# Altium footprint library Mod.PcbLib: 24 footprints (part 1 of 2)
Each footprint in its own frame and in the unit in brackets; x right, y up, seen from the top. Pads: shape width x height; smd on the part's side, far side on the other; paste and mask are expansions set on the pad; w line width, h text height; cw(c..) or ccw(c..) is an arc to the next point about the centre after c.
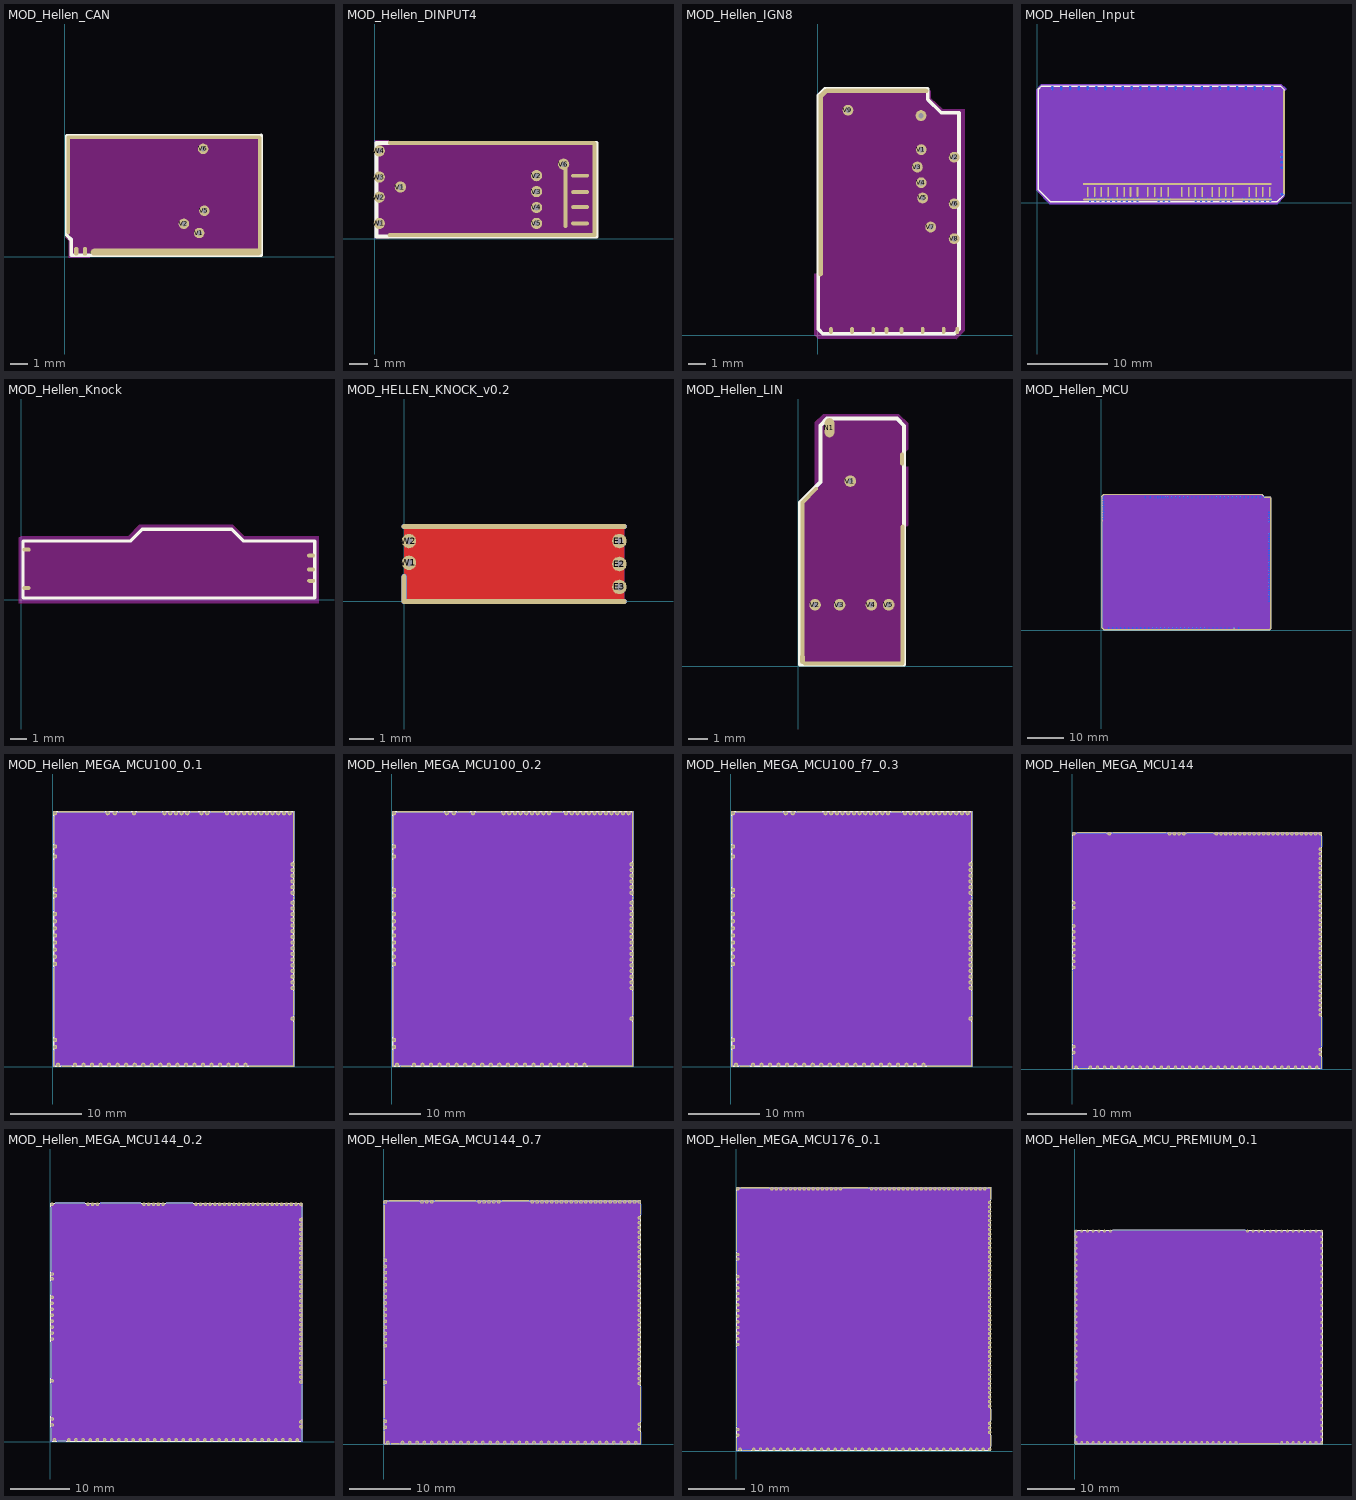
[diagram p0: the footprints below, top view; thin cyan lines are the x and y axes]

## MOD_Hellen_CAN [mm] "Hellen One : CAN module interface"
pads (11):
  oval 0.2x5.67 smd paste-50 mask+0.102: E1(0.2,4.137)
  oval 11.1x0.2 smd paste-50 mask+0.102: E1(5.675,6.875)
  oval 9.8x0.4 smd paste-50 mask+0.102: E1(6.375,0.275)
  oval 0.5x0.25 smd paste-50: E1(11,0.275)
  oval 0.2x6.8 smd paste-50 mask+0.102: E1(11.175,3.538)
  oval 0.25x0.5 smd paste-50: S1(0.65,0.325) S2(1.15,0.325)
  round 0.6 hole 0.3 paste-2539.97: V1(7.7,1.375) V2(6.825,1.9) V5(8,2.65) V6(7.925,6.2)
Top Layer keep-out:
  region: 0.227,-0.044 0.227,0.918 0.024,1.121 0.287,1.384 0.287,6.81 11.112,6.81 11.112,0.448 1.61,0.448 1.437,0.275 1.437,-0.044
Top Overlay:
  lines w0.2: 0.375,0.1 11.275,0.1 11.275,6.986 0.1,6.947 0.1,1.25 0.375,0.975 0.375,0.1 ; 0.375,0.1 0.375,0.1
Bottom Overlay:
  lines w0.2: 11.275,0.094 11.275,6.987 0.1,6.948 0.1,1.25 0.375,0.975 0.375,0.15 0.431,0.1 11.275,0.1

## MOD_Hellen_DINPUT4 [mm] "Hellen One : Digital Input 4-ch module interface"
pads (22):
  oval 11.1x0.2 smd paste-50 mask+0.102: G(6.25,0.2) G(6.26,5.125)
  oval 0.2x5.1 smd paste-50 mask+0.102: G(11.75,2.65)
  oval 0.95x0.2 smd paste-50 mask+0.102: J1(10.975,3.375) J2(10.975,2.5) J3(10.975,1.7) J4(10.975,0.825)
  round 0.6 hole 0.3 paste-2539.97: V1(1.375,2.768) V2(8.65,3.375) V3(8.65,2.525) V4(8.65,1.675) V5(8.65,0.825) V6(10.099,3.986) W1(0.25,0.825) W2(0.25,2.225) W3(0.25,3.3) W4(0.25,4.7)
  oval 0.2x3.5 smd paste-50 mask+0.102: V6(10.2,2.325)
  oval 0.5x0.25 smd paste-50 mask+0.102: W1(0.25,0.875) W2(0.25,2.175) W3(0.25,3.35) W4(0.25,4.65)
Top Layer keep-out:
  region: -0.001,0.025 -0.001,1.121 -0.001,5.255 0.75,5.255 0.75,5.125 11.75,5.125 11.75,0.175 0.75,0.175 0.75,0.025
Top Overlay:
  lines w0.2: 0.1,5.025 0.1,0.125 11.85,0.125 11.85,5.025 ; 0.1,5.125 11.85,5.125
Bottom Overlay:
  lines w0.2: 0.1,5.025 0.1,0.125 11.85,0.125 11.85,5.025 ; 0.1,5.125 11.85,5.125

## MOD_Hellen_IGN8 [mm] "Hellen One : 8-ch ignition module interface"
pads (21):
  oval 0.25x10.2 smd paste-50 mask+0.102: G(0.15,8.4)
  oval 0.65x0.25 smd rot 45 paste-50 mask+0.102: G(0.3,13.5)
  oval 5.8x0.25 smd paste-50 mask+0.102: G(3.263,13.65)
  oval 0.2x0.4 smd paste-50: S1(7.775,0.275) S2(7.015,0.275) S3(5.84,0.275) S4(4.665,0.275) S5(3.825,0.275) S6(3.075,0.275) S7(1.9,0.275) S8(0.725,0.275)
  round 0.6 hole 0.3 paste-2539.97: V1(5.765,10.375) V2(7.6,9.95) V3(5.55,9.4) V4(5.765,8.525) V5(5.84,7.675) V6(7.6,7.35) V7(6.29,6.05) V8(7.6,5.4) V9(1.675,12.575) V10(5.75,12.275)
Top Layer keep-out:
  region: -0.21,0.03 -0.21,3.437 0.171,3.437 0.171,13.345 0.476,13.65 6.3,13.65 6.3,13.248 6.961,12.627 8.19,12.615 8.19,0.265 7.725,-0.2 0.025,-0.2
Top Overlay:
  lines w0.2: 0.025,0.35 0.025,13.412 0.384,13.771 6.125,13.771 6.125,13.175 6.875,12.425 7.875,12.425 7.875,10.55 7.875,0.35 7.625,0.1 0.275,0.1 0.025,0.35
Bottom Overlay:
  lines w0.2: 0.025,0.35 0.025,13.412 0.387,13.774 6.125,13.774 6.125,13.175 6.875,12.425 7.875,12.425 7.875,0.35 7.625,0.1 0.275,0.1 0.025,0.35

## MOD_Hellen_Input [mm] "Hellen One : Analog/Digital inputs module interface"
pads (84):
  rrect100% 0.5x0.25 smd far side paste-50: E1(30.65,6.358) E2(30.65,5.698) E3(30.65,5.038) E4(30.65,4.378) E5(30.65,1.078)
  rrect100% 0.2x13 smd paste-50 mask+0.102: E1(30.85,7.545)
  rrect100% 23.6x0.25 smd paste-50 mask+0.102: J1(17.495,2.325) J2(17.52,0.4)
  rrect100% 0.2x1.25 smd paste-50 mask+0.102: J3(6.295,1.35) J4(7.17,1.35) J5(7.97,1.35) J6(8.845,1.35) J7(9.97,1.35) J8(10.845,1.35) J9(11.645,1.35) J10(12.52,1.35) J11(13.795,1.35) J12(14.67,1.35) J13(15.47,1.35) J14(16.345,1.35) J15(18.07,1.35) J16(18.945,1.35) J17(19.745,1.35) J18(20.62,1.35) J19(21.87,1.35) J20(22.745,1.35) J21(23.545,1.35) J22(24.42,1.35) J23(26.5,1.35) J24(27.375,1.35) J25(28.175,1.35) J26(29.05,1.35)
  rrect100% 0.25x0.5 smd far side: N1(1.88,14.327) N2(2.98,14.327) N3(4.08,14.327) N4(5.18,14.327) N5(6.28,14.327) N6(7.38,14.327) N7(8.48,14.327) N8(9.58,14.327) N9(10.68,14.327) N10(11.78,14.327) N11(12.88,14.327) N12(13.98,14.327) N13(15.08,14.327) N14(16.18,14.327) N15(17.28,14.327) N16(18.38,14.327) N17(19.48,14.327) N18(20.58,14.327) N19(21.68,14.327) N20(22.78,14.327) N21(23.88,14.327) N22(24.98,14.327) N23(26.08,14.327) N24(27.18,14.327) N25(28.28,14.327) N26(29.38,14.327)
  rrect100% 0.25x0.5 smd far side paste-50: S1(29.129,0.365) S2(28.469,0.365) S3(27.809,0.365) S4(27.149,0.365) S5(26.489,0.365) S6(25.829,0.365) S7(24.228,0.365) S8(23.568,0.365) S9(22.908,0.365) S10(21.787,0.365) S11(21.127,0.365) S12(20.467,0.365) S13(19.807,0.365) S14(16.481,0.365) S15(15.821,0.365) S16(15.161,0.365) S17(12.515,0.365) S18(11.855,0.365) S19(11.195,0.365) S20(10.535,0.365) S21(9.875,0.365) S22(9.215,0.365) S23(8.555,0.365) S24(7.895,0.365) S25(7.235,0.365) S26(6.575,0.365)
Top Layer keep-out:
  region: -0.175,1.575 -0.128,1.63 -0.175,14.15 0.484,14.809 30.516,14.809 31.1,14.225 31.1,14.15 30.886,13.936 30.886,0.72 30.898,0.708 30.014,-0.175 1.575,-0.175
Bottom Layer keep-out:
  region: -0.175,1.575 -0.128,1.63 -0.175,14.15 0.484,14.809 30.516,14.809 31.1,14.225 31.1,14.15 30.886,13.936 30.886,0.72 30.898,0.708 30.014,-0.175 1.575,-0.175
Top Overlay:
  lines w0.2: 29.975,0.1 30.9,1.025 30.9,14.075 30.4,14.575 0.5,14.575 0.1,14.175 0.1,1.65 1.65,0.1 29.98,0.1
Bottom Overlay:
  lines w0.2: 29.975,0.1 30.9,1.025 30.9,14.075 30.4,14.575 0.5,14.575 0.1,14.175 0.1,1.65 1.65,0.1 29.98,0.1

## MOD_Hellen_Knock [mm] "Hellen One : Knock pre-amplifier module interface"
pads (5):
  oval 0.5x0.25 smd paste-50: E1(18.15,2.75) E2(18.15,1.875) E3(18.15,1.175) W1(0.325,0.725) W2(0.325,3.125)
Top Layer keep-out:
  region: -0.15,-0.225 -0.15,3.875 -0.05,3.975 6.7,3.975 7.4,4.675 13.251,4.675 13.951,3.975 18.647,3.975 18.647,-0.225
Top Overlay:
  lines w0.2: 0.1,0.1 18.375,0.1 18.375,3.675 13.9,3.675 13.175,4.4 7.575,4.4 6.85,3.675 0.1,3.675 0.1,0.1
Bottom Overlay:
  lines w0.2: 0.1,0.1 0.1,3.675 6.85,3.675 7.575,4.4 13.175,4.4 13.9,3.675 18.375,3.675 18.375,0.1 0.1,0.1

## MOD_HELLEN_KNOCK_v0.2 [mm] "Hellen One : Knock pre-amplifier module interface"
pads (17):
  round 0.6 hole 0.3 paste-2539.97: E1(8.9,2.5) E2(8.9,1.55) E3(8.9,0.6) W1(0.2,1.6) W2(0.2,2.5)
  oval 0.2x1.225 on Mid1 paste-50 mask-1: E2(0,0.525)
  oval 0.2x1.225 smd paste-50 mask-1: E2(0,0.525)
  oval 0.2x1.225 smd far side paste-50 mask-1: E2(0,0.525)
  oval 0.2x1.225 on Mid2 paste-50 mask-1: E2(0,0.525)
  oval 9.3x0.2 on Mid1 paste-50 mask-1: E2(4.55,0) E2(4.55,3.1)
  oval 9.3x0.2 smd paste-50 mask-1: E2(4.55,0) E2(4.55,3.1)
  oval 9.3x0.2 smd far side paste-50 mask-1: E2(4.55,0) E2(4.55,3.1)
  oval 9.3x0.2 on Mid2 paste-50 mask-1: E2(4.55,0) E2(4.55,3.1)
Top Layer:
  pour cut-out: 0,3.1 0,0 9.1,0 9.1,3.1
Mid-Layer 1:
  pour cut-out: 0,3.1 0,0 9.1,0 9.1,3.1
Mid-Layer 2:
  pour cut-out: 0,3.1 0,0 9.1,0 9.1,3.1
Bottom Layer:
  pour cut-out: 0,3.1 0,0 9.1,0 9.1,3.1
Top Overlay:
  lines w0.2: 0,1 0,0 9.1,0 ; 0,3.1 9.1,3.1
Bottom Overlay:
  lines w0.2: 0,1 0,0 9.1,0 ; 0,3.1 9.1,3.1

## MOD_Hellen_LIN [mm] "Hellen One : LIN module interface"
pads (12):
  oval 0.2x8.4 smd paste-50 mask+0.102: E1(0.22,4.363)
  oval 0.2x1.2 smd rot 135 paste-50 mask+0.102: E1(0.578,8.878)
  oval 5.25x0.2 smd paste-50 mask+0.102: E1(2.879,0.15)
  oval 0.2x0.7 smd paste-50: E1(5.395,10.775)
  oval 0.2x7.25 smd paste-50 mask+0.102: E1(5.425,3.738)
  oval 0.5x1 smd paste-50: N1(1.625,12.4)
  oval 0.25x0.5 smd paste-50: S1(0.22,0.375)
  round 0.6 hole 0.3 paste-2539.97: V1(2.705,9.625) V2(0.875,3.2) V3(2.15,3.2) V4(3.8,3.2) V5(4.7,3.2)
Top Layer keep-out:
  region: 0.15,0.293 0.15,8.525 0.86,9.235 0.86,12.685 1.288,13.113 5.237,13.113 5.725,12.625 5.725,11.289 5.541,11.106 5.338,11.106 5.338,10.486 5.317,10.465 5.407,10.375 5.725,10.375 5.725,7.325 5.675,7.275 5.375,7.275 5.375,0.175 0.268,0.175
Top Overlay:
  lines w0.2: 0.1,8.525 0.1,0.1 5.5,0.1 5.5,12.5 5.125,12.875 1.5,12.875 1.15,12.525 1.15,9.575 0.125,8.55
Bottom Overlay:
  lines w0.2: 0.1,8.525 0.1,0.1 5.5,0.1 5.5,12.5 5.125,12.875 1.5,12.875 1.15,12.525 1.15,9.575 0.125,8.55

## MOD_Hellen_MCU [mm] "Hellen One : MCU module interface"
pads (121):
  rrect100% 0.5x0.25 smd far side paste-50: E1(46.002,32.325) E2(46.002,31.665) E3(46.002,31.005) E4(46.002,30.345) E5(46.002,29.685) E6(46.002,26.385) E7(46.002,25.725) E8(46.002,25.065) E9(46.002,24.405) E10(46.002,23.745) E11(46.002,23.085) E12(46.002,22.425) E13(46.002,21.765) E14(46.002,21.105) E15(46.002,20.445) E16(46.002,19.785) E17(46.002,19.125) E18(46.002,18.465) E19(46.002,17.805) E20(46.002,17.145) E21(46.002,16.485) E22(46.002,15.825) E23(46.002,15.165) E24(46.002,14.505) E25(46.002,13.845) E26(46.002,13.185) E27(46.002,12.525) E28(46.002,11.865) E29(46.002,11.205) E30(46.002,10.545) E31(46.002,9.885) E32(46.002,9.225) E33(46.002,8.565) E34(46.002,7.905) W1(0.475,30.58) W2(0.475,31.24) W3(0.475,31.9) W4(0.475,32.56) W5(0.475,33.22) W6(0.475,33.88) W7(0.475,34.54) W8(0.475,35.2) W9(0.475,35.86) W10(0.475,36.52)
  rrect100% 0.25x0.5 smd far side paste-50: N1(12.055,36.452) N2(13.375,36.452) N3(14.695,36.452) N4(15.455,36.452) N5(16.12,36.452) N6(16.785,36.452) N7(17.45,36.452) N8(18.225,36.452) N9(19.325,36.452) N10(20.425,36.452) N11(21.525,36.452) N12(22.625,36.452) N13(23.725,36.452) N14(24.825,36.452) N15(25.925,36.452) N16(27.025,36.452) N17(28.125,36.452) N18(29.225,36.452) N19(30.325,36.452) N20(31.425,36.452) N21(32.525,36.452) N22(33.625,36.452) N23(34.725,36.452) N24(35.825,36.452) N25(36.925,36.452) N26(38.025,36.452) N27(39.125,36.452) N28(40.225,36.452) N29(41.325,36.452) N30(42.425,36.452) N31(43.525,36.452) N32(44.625,36.452) S1(37.625,0.523) S2(36.305,0.523) S3(34.985,0.523) S4(33.885,0.523) S5(32.785,0.523) S6(31.685,0.523) S7(30.585,0.523) S8(29.485,0.523) S9(28.385,0.523) S10(27.285,0.523) S11(26.185,0.523) S12(25.085,0.523) S13(23.985,0.523) S14(22.885,0.523) S15(21.785,0.523) S16(20.685,0.523) S17(19.585,0.523) S18(18.485,0.523) S19(17.385,0.523) S20(16.285,0.523) S21(15.185,0.523) S22(14.085,0.523) S23(12.985,0.523) S24(11.885,0.523) S25(10.785,0.523) S26(9.685,0.523) S27(8.585,0.523) S28(7.485,0.523) S29(6.385,0.523) S30(5.285,0.523) S31(4.185,0.523) S32(3.085,0.523) S33(1.985,0.523)
  rrect100% 0.2x36.19 smd paste-50 mask+0.102: S2(0.175,18.722)
  rrect100% 0.2x29 smd far side paste-50 mask+0.102: S2(0.34,15.24)
  rrect100% 0.2x0.8 smd rot 135 paste-50 mask+0.102: S2(0.39,36.935)
  rrect100% 0.2x0.94 smd rot 45 paste-50 mask+0.102: S2(0.438,0.462)
  rrect100% 43.5x0.2 smd paste-50 mask+0.102: S2(22.265,37.15)
  rrect100% 45.6x0.2 smd paste-50 mask+0.102: S2(23.4,0.2)
  rrect100% 0.25x0.7 smd paste-50: S2(36.305,0.45)
  rrect100% 0.2x1.2 smd rot 45 paste-50 mask+0.102: S2(44.288,36.788)
  rrect100% 1.6x0.2 smd paste-50 mask+0.102: S2(45.375,36.425)
  rrect100% 0.2x0.58 smd rot 135 paste-50 mask+0.102: S2(46.212,0.337)
  rrect100% 0.2x0.55 smd rot 45 paste-50 mask+0.102: S2(46.225,36.3)
  rrect100% 0.2x35.9 smd paste-50 mask+0.102: S2(46.35,18.325)
Top Layer keep-out:
  region: 0.098,0.712 0.098,36.72 0.528,37.15 43.925,37.15 44.625,36.45 46.075,36.45 46.35,36.175 46.35,0.374 46.086,0.109 0.682,0.109
Bottom Layer keep-out:
  region: 0.3,0.535 0.3,29.725 0.151,29.725 0.151,36.773 0.536,37.15 43.925,37.15 44.625,36.45 46.075,36.45 46.35,36.175 46.35,0.374 46.075,0.099 46.064,0.109 0.682,0.109
Top Overlay:
  lines w0.2: 0.096,0.677 0.096,36.743 0.61,37.257 43.968,37.257 44.675,36.55 46.212,36.55 46.425,36.337 46.425,0.443 46.083,0.101 0.672,0.101 0.096,0.677
Bottom Overlay:
  lines w0.2: 0.1,0.67 0.1,36.762 0.588,37.25 43.975,37.25 44.675,36.55 46.2,36.55 46.424,36.326 46.424,0.443 46.082,0.101 0.669,0.101 0.1,0.67

## MOD_Hellen_MEGA_MCU100_0.1 [mm] "Hellen One : MEGA MCU100 module interface"
pads (150):
  round 0.6 hole 0.3 paste-2539.97 mask+0: E1(33.7,6.8) E2(33.7,11.1) E3(33.7,11.9) E4(33.7,12.7) E5(33.7,13.5) E6(33.7,14.3) E7(33.7,15.1) E8(33.7,15.9) E9(33.7,16.7) E10(33.7,17.5) E11(33.7,18.3) E12(33.7,19.1) E13(33.7,19.9) E14(33.7,20.7) E15(33.7,21.5) E16(33.7,22.3) E17(33.7,23.1) E18(33.7,24.5) E19(33.7,25.3) E20(33.7,26.1) E21(33.7,26.9) E22(33.7,27.7) E23(33.7,28.5) N1(33.3,35.7) N2(32.5,35.7) N3(31.7,35.7) N4(30.9,35.7) N5(30.1,35.7) N6(29.3,35.7) N7(28.5,35.7) N8(27.7,35.7) N9(26.9,35.7) N10(26.1,35.7) N11(25.3,35.7) N12(24.5,35.7) N13(21.7,35.7) N14(20.9,35.7) N15(18.9,35.7) N16(18.1,35.7) N17(17.3,35.7) N18(16.5,35.7) N19(15.7,35.7) N20(11.4,35.7) N21(8.7,35.7) N22(7.7,35.7) N23(0.3,35.7) S1(27.1,0.3) S2(25.9,0.3) S3(24.7,0.3) S4(23.5,0.3) S5(22.3,0.3) S6(21.1,0.3) S7(19.9,0.3) S8(18.7,0.3) S9(17.5,0.3) S10(16.3,0.3) S11(15.1,0.3) S12(13.9,0.3) S13(12.7,0.3) S14(11.5,0.3) S15(10.3,0.3) S16(9.1,0.3) S17(7.9,0.3) S18(6.7,0.3) S19(5.5,0.3) S20(4.3,0.3) S21(3.1,0.3) S22(0.7,0.3) W1(0.3,2.8) W2(0.3,3.8) W3(0.3,14.5) W4(0.3,15.5) W5(0.3,16.5) W6(0.3,17.5) W7(0.3,18.5) W8(0.3,19.5) W9(0.3,20.5) W10(0.3,21.5) W11(0.3,24.1) W12(0.3,24.9) W13(0.3,29.6) W14(0.3,31)
  rect 0.2x2.3 on Mid1 paste+0 mask+0: G(0.1,1.15)
  rect 0.2x2.3 smd paste+0 mask+0: G(0.1,1.15)
  rect 0.2x2.3 on Mid2 paste+0 mask+0: G(0.1,1.15)
  rect 0.2x2.3 smd far side paste+0 mask+0: G(0.1,1.15)
  rect 0.2x9.7 on Mid1 paste+0 mask+0: G(0.1,9.15)
  rect 0.2x9.7 smd paste+0 mask+0: G(0.1,9.15)
  rect 0.2x9.7 on Mid2 paste+0 mask+0: G(0.1,9.15)
  rect 0.2x9.7 smd far side paste+0 mask+0: G(0.1,9.15)
  rect 0.2x1.6 on Mid1 paste+0 mask+0: G(0.1,22.8)
  rect 0.2x1.6 smd paste+0 mask+0: G(0.1,22.8)
  rect 0.2x1.6 on Mid2 paste+0 mask+0: G(0.1,22.8)
  rect 0.2x1.6 smd far side paste+0 mask+0: G(0.1,22.8)
  rect 0.2x3.7 on Mid1 paste+0 mask+0: G(0.1,27.25) G(0.1,33.35)
  rect 0.2x3.7 smd paste+0 mask+0: G(0.1,27.25) G(0.1,33.35)
  rect 0.2x3.7 on Mid2 paste+0 mask+0: G(0.1,27.25) G(0.1,33.35)
  rect 0.2x3.7 smd far side paste+0 mask+0: G(0.1,27.25) G(0.1,33.35)
  rect 0.2x0.4 on Mid1 paste+0 mask+0: G(0.1,30.3) G(33.9,23.8)
  rect 0.2x0.4 smd paste+0 mask+0: G(0.1,30.3) G(33.9,23.8)
  rect 0.2x0.4 on Mid2 paste+0 mask+0: G(0.1,30.3) G(33.9,23.8)
  rect 0.2x0.4 smd far side paste+0 mask+0: G(0.1,30.3) G(33.9,23.8)
  rect 1.4x0.2 on Mid1 paste+0 mask+0: G(1.9,0.1)
  rect 1.4x0.2 smd paste+0 mask+0: G(1.9,0.1)
  rect 1.4x0.2 on Mid2 paste+0 mask+0: G(1.9,0.1)
  rect 1.4x0.2 smd far side paste+0 mask+0: G(1.9,0.1)
  rect 6.4x0.2 on Mid1 paste+0 mask+0: G(4,35.9) G(30.8,0.1)
  rect 6.4x0.2 smd paste+0 mask+0: G(4,35.9) G(30.8,0.1)
  rect 6.4x0.2 on Mid2 paste+0 mask+0: G(4,35.9) G(30.8,0.1)
  rect 6.4x0.2 smd far side paste+0 mask+0: G(4,35.9) G(30.8,0.1)
  rect 1.7x0.2 on Mid1 paste+0 mask+0: G(10.05,35.9)
  rect 1.7x0.2 smd paste+0 mask+0: G(10.05,35.9)
  rect 1.7x0.2 on Mid2 paste+0 mask+0: G(10.05,35.9)
  rect 1.7x0.2 smd far side paste+0 mask+0: G(10.05,35.9)
  rect 3.3x0.2 on Mid1 paste+0 mask+0: G(13.55,35.9)
  rect 3.3x0.2 smd paste+0 mask+0: G(13.55,35.9)
  rect 3.3x0.2 on Mid2 paste+0 mask+0: G(13.55,35.9)
  rect 3.3x0.2 smd far side paste+0 mask+0: G(13.55,35.9)
  rect 1x0.2 on Mid1 paste+0 mask+0: G(19.9,35.9)
  rect 1x0.2 smd paste+0 mask+0: G(19.9,35.9)
  rect 1x0.2 on Mid2 paste+0 mask+0: G(19.9,35.9)
  rect 1x0.2 smd far side paste+0 mask+0: G(19.9,35.9)
  rect 1.8x0.2 on Mid1 paste+0 mask+0: G(23.1,35.9)
  rect 1.8x0.2 smd paste+0 mask+0: G(23.1,35.9)
  rect 1.8x0.2 on Mid2 paste+0 mask+0: G(23.1,35.9)
  rect 1.8x0.2 smd far side paste+0 mask+0: G(23.1,35.9)
  rect 0.2x6.3 on Mid1 paste+0 mask+0: G(33.9,3.15)
  rect 0.2x6.3 smd paste+0 mask+0: G(33.9,3.15)
  rect 0.2x6.3 on Mid2 paste+0 mask+0: G(33.9,3.15)
  rect 0.2x6.3 smd far side paste+0 mask+0: G(33.9,3.15)
  rect 0.2x3.3 on Mid1 paste+0 mask+0: G(33.9,8.95)
  rect 0.2x3.3 smd paste+0 mask+0: G(33.9,8.95)
  rect 0.2x3.3 on Mid2 paste+0 mask+0: G(33.9,8.95)
  rect 0.2x3.3 smd far side paste+0 mask+0: G(33.9,8.95)
  rect 0.2x7 on Mid1 paste+0 mask+0: G(33.9,32.5)
  rect 0.2x7 smd paste+0 mask+0: G(33.9,32.5)
  rect 0.2x7 on Mid2 paste+0 mask+0: G(33.9,32.5)
  rect 0.2x7 smd far side paste+0 mask+0: G(33.9,32.5)
Top Layer keep-out:
  region: 33.9,35.912 33.9,0.1 0.1,0.1 0.1,35.912
Mid-Layer 1 keep-out:
  region: 33.9,35.912 33.9,0.1 0.1,0.1 0.1,35.912
Mid-Layer 2 keep-out:
  region: 33.9,35.912 33.9,0.1 0.1,0.1 0.1,35.912
Bottom Layer keep-out:
  region: 33.9,35.9 33.9,0.1 0.1,0.1 0.1,35.9
Top Overlay:
  lines w0.2: 0.1,0.1 33.9,0.1 33.9,35.9 0.1,35.9 0.1,0.1
Bottom Overlay:
  lines w0.2: 0.1,0.1 33.9,0.1 33.9,35.9 0.1,35.9 0.1,0.1

## MOD_Hellen_MEGA_MCU100_0.2 [mm] "Hellen One : MEGA MCU100 module interface"
pads (148):
  round 0.6 hole 0.3 paste-2539.97 mask+0: E1(33.7,6.8) E2(33.7,11.1) E3(33.7,11.9) E4(33.7,12.7) E5(33.7,13.5) E6(33.7,14.3) E7(33.7,15.1) E8(33.7,15.9) E9(33.7,16.7) E10(33.7,17.5) E11(33.7,18.3) E12(33.7,19.1) E13(33.7,19.9) E14(33.7,20.7) E15(33.7,21.5) E16(33.7,22.3) E17(33.7,23.1) E18(33.7,24.5) E19(33.7,25.3) E20(33.7,26.1) E21(33.7,26.9) E22(33.7,27.7) E23(33.7,28.5) N1(33.3,35.7) N2(32.5,35.7) N3(31.7,35.7) N4(30.9,35.7) N5(30.1,35.7) N6(29.3,35.7) N7(28.5,35.7) N8(27.7,35.7) N9(26.9,35.7) N10(26.1,35.7) N11(25.3,35.7) N12(24.5,35.7) N13(22.1,35.7) N14(21.3,35.7) N14a(20.5,35.7) N14b(19.7,35.7) N15(18.9,35.7) N16(18.1,35.7) N17(17.3,35.7) N18(16.5,35.7) N19(15.7,35.7) N20(11.4,35.7) N21(8.7,35.7) N22(7.7,35.7) N23(0.3,35.7) S1(27.1,0.3) S2(25.9,0.3) S3(24.7,0.3) S4(23.5,0.3) S5(22.3,0.3) S6(21.1,0.3) S7(19.9,0.3) S8(18.7,0.3) S9(17.5,0.3) S10(16.3,0.3) S11(15.1,0.3) S12(13.9,0.3) S13(12.7,0.3) S14(11.5,0.3) S15(10.3,0.3) S16(9.1,0.3) S17(7.9,0.3) S18(6.7,0.3) S19(5.5,0.3) S20(4.3,0.3) S21(3.1,0.3) S22(0.7,0.3) W1(0.3,2.8) W2(0.3,3.8) W3(0.3,14.5) W4(0.3,15.5) W5(0.3,16.5) W6(0.3,17.5) W7(0.3,18.5) W8(0.3,19.5) W9(0.3,20.5) W10(0.3,21.5) W11(0.3,24.1) W12(0.3,24.9) W13(0.3,29.6) W14(0.3,31)
  rect 0.2x2.3 on Mid1 paste+0 mask+0: G(0.1,1.15)
  rect 0.2x2.3 smd paste+0 mask+0: G(0.1,1.15)
  rect 0.2x2.3 on Mid2 paste+0 mask+0: G(0.1,1.15)
  rect 0.2x2.3 smd far side paste+0 mask+0: G(0.1,1.15)
  rect 0.2x9.7 on Mid1 paste+0 mask+0: G(0.1,9.15)
  rect 0.2x9.7 smd paste+0 mask+0: G(0.1,9.15)
  rect 0.2x9.7 on Mid2 paste+0 mask+0: G(0.1,9.15)
  rect 0.2x9.7 smd far side paste+0 mask+0: G(0.1,9.15)
  rect 0.2x1.6 on Mid1 paste+0 mask+0: G(0.1,22.8)
  rect 0.2x1.6 smd paste+0 mask+0: G(0.1,22.8)
  rect 0.2x1.6 on Mid2 paste+0 mask+0: G(0.1,22.8)
  rect 0.2x1.6 smd far side paste+0 mask+0: G(0.1,22.8)
  rect 0.2x3.7 on Mid1 paste+0 mask+0: G(0.1,27.25) G(0.1,33.35)
  rect 0.2x3.7 smd paste+0 mask+0: G(0.1,27.25) G(0.1,33.35)
  rect 0.2x3.7 on Mid2 paste+0 mask+0: G(0.1,27.25) G(0.1,33.35)
  rect 0.2x3.7 smd far side paste+0 mask+0: G(0.1,27.25) G(0.1,33.35)
  rect 0.2x0.4 on Mid1 paste+0 mask+0: G(0.1,30.3) G(33.9,23.8)
  rect 0.2x0.4 smd paste+0 mask+0: G(0.1,30.3) G(33.9,23.8)
  rect 0.2x0.4 on Mid2 paste+0 mask+0: G(0.1,30.3) G(33.9,23.8)
  rect 0.2x0.4 smd far side paste+0 mask+0: G(0.1,30.3) G(33.9,23.8)
  rect 1.4x0.2 on Mid1 paste+0 mask+0: G(1.9,0.1) G(23.3,35.9)
  rect 1.4x0.2 smd paste+0 mask+0: G(1.9,0.1) G(23.3,35.9)
  rect 1.4x0.2 on Mid2 paste+0 mask+0: G(1.9,0.1) G(23.3,35.9)
  rect 1.4x0.2 smd far side paste+0 mask+0: G(1.9,0.1) G(23.3,35.9)
  rect 6.4x0.2 on Mid1 paste+0 mask+0: G(4,35.9) G(30.8,0.1)
  rect 6.4x0.2 smd paste+0 mask+0: G(4,35.9) G(30.8,0.1)
  rect 6.4x0.2 on Mid2 paste+0 mask+0: G(4,35.9) G(30.8,0.1)
  rect 6.4x0.2 smd far side paste+0 mask+0: G(4,35.9) G(30.8,0.1)
  rect 1.7x0.2 on Mid1 paste+0 mask+0: G(10.05,35.9)
  rect 1.7x0.2 smd paste+0 mask+0: G(10.05,35.9)
  rect 1.7x0.2 on Mid2 paste+0 mask+0: G(10.05,35.9)
  rect 1.7x0.2 smd far side paste+0 mask+0: G(10.05,35.9)
  rect 3.3x0.2 on Mid1 paste+0 mask+0: G(13.55,35.9)
  rect 3.3x0.2 smd paste+0 mask+0: G(13.55,35.9)
  rect 3.3x0.2 on Mid2 paste+0 mask+0: G(13.55,35.9)
  rect 3.3x0.2 smd far side paste+0 mask+0: G(13.55,35.9)
  rect 0.2x6.3 on Mid1 paste+0 mask+0: G(33.9,3.15)
  rect 0.2x6.3 smd paste+0 mask+0: G(33.9,3.15)
  rect 0.2x6.3 on Mid2 paste+0 mask+0: G(33.9,3.15)
  rect 0.2x6.3 smd far side paste+0 mask+0: G(33.9,3.15)
  rect 0.2x3.3 on Mid1 paste+0 mask+0: G(33.9,8.95)
  rect 0.2x3.3 smd paste+0 mask+0: G(33.9,8.95)
  rect 0.2x3.3 on Mid2 paste+0 mask+0: G(33.9,8.95)
  rect 0.2x3.3 smd far side paste+0 mask+0: G(33.9,8.95)
  rect 0.2x7 on Mid1 paste+0 mask+0: G(33.9,32.5)
  rect 0.2x7 smd paste+0 mask+0: G(33.9,32.5)
  rect 0.2x7 on Mid2 paste+0 mask+0: G(33.9,32.5)
  rect 0.2x7 smd far side paste+0 mask+0: G(33.9,32.5)
Top Layer keep-out:
  region: 33.9,35.912 33.9,0.1 0.1,0.1 0.1,35.912
Mid-Layer 1 keep-out:
  region: 33.9,35.912 33.9,0.1 0.1,0.1 0.1,35.912
Mid-Layer 2 keep-out:
  region: 33.9,35.912 33.9,0.1 0.1,0.1 0.1,35.912
Bottom Layer keep-out:
  region: 33.9,35.9 33.9,0.1 0.1,0.1 0.1,35.9
Top Overlay:
  lines w0.2: 0.1,0.1 0.1,35.9 33.9,35.9 33.9,0.1 0.1,0.1
Bottom Overlay:
  lines w0.2: 0.1,0.1 0.1,35.9 33.9,35.9 33.9,0.1 0.1,0.1

## MOD_Hellen_MEGA_MCU100_f7_0.3 [mm] "Hellen One : MEGA MCU100 f7 module interface"
pads (146):
  round 0.6 hole 0.3 paste-2539.97 mask+0: E1(33.7,6.8) E2(33.7,11.1) E3(33.7,11.9) E4(33.7,12.7) E5(33.7,13.5) E6(33.7,14.3) E7(33.7,15.1) E8(33.7,15.9) E9(33.7,16.7) E10(33.7,17.5) E11(33.7,18.3) E12(33.7,19.1) E13(33.7,19.9) E14(33.7,20.7) E15(33.7,21.5) E16(33.7,22.3) E17(33.7,23.1) E18(33.7,24.5) E19(33.7,25.3) E20(33.7,26.1) E21(33.7,26.9) E22(33.7,27.7) E23(33.7,28.5) N1(33.3,35.7) N2(32.5,35.7) N3(31.7,35.7) N4(30.9,35.7) N5(30.1,35.7) N6(29.3,35.7) N7(28.5,35.7) N8(27.7,35.7) N9(26.9,35.7) N10(26.1,35.7) N11(25.3,35.7) N12(24.5,35.7) N13(22.1,35.7) N14(21.3,35.7) N14a(20.5,35.7) N14b(19.7,35.7) N15(18.9,35.7) N16(18.1,35.7) N17(17.3,35.7) N18(16.5,35.7) N19(15.7,35.7) N19b(14.9,35.7) N19c(14.1,35.7) N20(13.3,35.7) N21(8.7,35.7) N22(7.7,35.7) N23(0.3,35.7) S1(27.1,0.3) S2(25.9,0.3) S3(24.7,0.3) S4(23.5,0.3) S5(22.3,0.3) S6(21.1,0.3) S7(19.9,0.3) S8(18.7,0.3) S9(17.5,0.3) S10(16.3,0.3) S11(15.1,0.3) S12(13.9,0.3) S13(12.7,0.3) S14(11.5,0.3) S15(10.3,0.3) S16(9.1,0.3) S17(7.9,0.3) S18(6.7,0.3) S19(5.5,0.3) S20(4.3,0.3) S21(3.1,0.3) S22(0.7,0.3) W1(0.3,2.8) W2(0.3,3.8) W3(0.3,14.5) W4(0.3,15.5) W5(0.3,16.5) W6(0.3,17.5) W7(0.3,18.5) W8(0.3,19.5) W9(0.3,20.5) W10(0.3,21.5) W11(0.3,24.1) W12(0.3,24.9) W13(0.3,29.6) W14(0.3,31)
  rect 0.2x2.3 on Mid1 paste+0 mask+0: G(0.1,1.15)
  rect 0.2x2.3 smd paste+0 mask+0: G(0.1,1.15)
  rect 0.2x2.3 on Mid2 paste+0 mask+0: G(0.1,1.15)
  rect 0.2x2.3 smd far side paste+0 mask+0: G(0.1,1.15)
  rect 0.2x9.7 on Mid1 paste+0 mask+0: G(0.1,9.15)
  rect 0.2x9.7 smd paste+0 mask+0: G(0.1,9.15)
  rect 0.2x9.7 on Mid2 paste+0 mask+0: G(0.1,9.15)
  rect 0.2x9.7 smd far side paste+0 mask+0: G(0.1,9.15)
  rect 0.2x1.6 on Mid1 paste+0 mask+0: G(0.1,22.8)
  rect 0.2x1.6 smd paste+0 mask+0: G(0.1,22.8)
  rect 0.2x1.6 on Mid2 paste+0 mask+0: G(0.1,22.8)
  rect 0.2x1.6 smd far side paste+0 mask+0: G(0.1,22.8)
  rect 0.2x3.7 on Mid1 paste+0 mask+0: G(0.1,27.25) G(0.1,33.35)
  rect 0.2x3.7 smd paste+0 mask+0: G(0.1,27.25) G(0.1,33.35)
  rect 0.2x3.7 on Mid2 paste+0 mask+0: G(0.1,27.25) G(0.1,33.35)
  rect 0.2x3.7 smd far side paste+0 mask+0: G(0.1,27.25) G(0.1,33.35)
  rect 0.2x0.4 on Mid1 paste+0 mask+0: G(0.1,30.3) G(33.9,23.8)
  rect 0.2x0.4 smd paste+0 mask+0: G(0.1,30.3) G(33.9,23.8)
  rect 0.2x0.4 on Mid2 paste+0 mask+0: G(0.1,30.3) G(33.9,23.8)
  rect 0.2x0.4 smd far side paste+0 mask+0: G(0.1,30.3) G(33.9,23.8)
  rect 1.4x0.2 on Mid1 paste+0 mask+0: G(1.9,0.1) G(23.3,35.9)
  rect 1.4x0.2 smd paste+0 mask+0: G(1.9,0.1) G(23.3,35.9)
  rect 1.4x0.2 on Mid2 paste+0 mask+0: G(1.9,0.1) G(23.3,35.9)
  rect 1.4x0.2 smd far side paste+0 mask+0: G(1.9,0.1) G(23.3,35.9)
  rect 6.4x0.2 on Mid1 paste+0 mask+0: G(4,35.9) G(30.8,0.1)
  rect 6.4x0.2 smd paste+0 mask+0: G(4,35.9) G(30.8,0.1)
  rect 6.4x0.2 on Mid2 paste+0 mask+0: G(4,35.9) G(30.8,0.1)
  rect 6.4x0.2 smd far side paste+0 mask+0: G(4,35.9) G(30.8,0.1)
  rect 3.6x0.2 on Mid1 paste+0 mask+0: G(11,35.9)
  rect 3.6x0.2 smd paste+0 mask+0: G(11,35.9)
  rect 3.6x0.2 on Mid2 paste+0 mask+0: G(11,35.9)
  rect 3.6x0.2 smd far side paste+0 mask+0: G(11,35.9)
  rect 0.2x6.3 on Mid1 paste+0 mask+0: G(33.9,3.15)
  rect 0.2x6.3 smd paste+0 mask+0: G(33.9,3.15)
  rect 0.2x6.3 on Mid2 paste+0 mask+0: G(33.9,3.15)
  rect 0.2x6.3 smd far side paste+0 mask+0: G(33.9,3.15)
  rect 0.2x3.3 on Mid1 paste+0 mask+0: G(33.9,8.95)
  rect 0.2x3.3 smd paste+0 mask+0: G(33.9,8.95)
  rect 0.2x3.3 on Mid2 paste+0 mask+0: G(33.9,8.95)
  rect 0.2x3.3 smd far side paste+0 mask+0: G(33.9,8.95)
  rect 0.2x7 on Mid1 paste+0 mask+0: G(33.9,32.5)
  rect 0.2x7 smd paste+0 mask+0: G(33.9,32.5)
  rect 0.2x7 on Mid2 paste+0 mask+0: G(33.9,32.5)
  rect 0.2x7 smd far side paste+0 mask+0: G(33.9,32.5)
Top Layer keep-out:
  region: 33.9,35.912 33.9,0.1 0.1,0.1 0.1,35.912
Mid-Layer 1 keep-out:
  region: 33.9,35.912 33.9,0.1 0.1,0.1 0.1,35.912
Mid-Layer 2 keep-out:
  region: 33.9,35.912 33.9,0.1 0.1,0.1 0.1,35.912
Bottom Layer keep-out:
  region: 33.9,35.9 33.9,0.1 0.1,0.1 0.1,35.9
Top Overlay:
  lines w0.2: 0.1,0.1 33.9,0.1 33.9,35.9 0.1,35.9 0.1,0.1
Bottom Overlay:
  lines w0.2: 0.1,0.1 33.9,0.1 33.9,35.9 0.1,35.9 0.1,0.1

## MOD_Hellen_MEGA_MCU144 [mm] "Hellen One : MEGA MCU144 module interface"
pads (157):
  round 0.6 hole 0.3 paste-2539.97 mask+0.102: E1(42,37.2) E2(42,36.4) E3(42,35.6) E4(42,34.8) E6(42,34) E7(42,33.2) E8(42,32.4) E9(42,31.6) E10(42,30.8) E11(42,30) E12(42,29.2) E13(42,28.4) E14(42,27.6) E15(42,26.8) E16(42,26) E17(42,25.2) E18(42,24.4) E19(42,23.6) E20(42,22.8) E21(42,22) E22(42,21.2) E23(42,20.4) E24(42,19.6) E25(42,18.8) E26(42,18) E27(42,17.2) E28(42,16.4) E29(42,15.6) E30(42,14.8) E31(42,14) E32(42,13.2) E33(42,12.4) E34(42,11.6) E35(42,10.8) E36(42,10) E37(42,9.2) E38(42,3.3) E39(42,2.5) N1(42,39.8) N2(41.2,39.8) N3(40.4,39.8) N4(39.6,39.8) N5(38.8,39.8) N6(38,39.8) N7(37.2,39.8) N8(36.4,39.8) N9(35.6,39.8) N10(34.8,39.8) N11(34,39.8) N12(33.2,39.8) N13(32.4,39.8) N14(31.6,39.8) N15(30.8,39.8) N16(30,39.8) N17(29.2,39.8) N18(28.4,39.8) N19(27.6,39.8) N20(26.8,39.8) N21(26,39.8) N22(25.2,39.8) N23(24.4,39.8) N24(18.9,39.8) N25(18.1,39.8) N26(17.3,39.8) N27(16.5,39.8) N28(6.3,39.8) N29(0.3,39.8) S1(41.4,0.3) S2(40.2,0.3) S3(39,0.3) S4(37.8,0.3) S5(36.6,0.3) S6(35.5,0.3) S7(34.3,0.3) S8(33.1,0.3) S9(31.9,0.3) S10(30.7,0.3) S11(29.5,0.3) S12(28.3,0.3) S13(27.1,0.3) S14(25.9,0.3) S15(24.7,0.3) S16(23.5,0.3) S17(22.3,0.3) S18(21.1,0.3) S19(19.9,0.3) S20(18.7,0.3) S21(17.5,0.3) S22(16.3,0.3) S23(15.1,0.3) S24(13.9,0.3) S25(12.7,0.3) S26(11.5,0.3) S27(10.3,0.3) S28(9.1,0.3) S29(7.9,0.3) S30(6.7,0.3) S31(5.5,0.3) S32(4.3,0.3) S33(3.1,0.3) S35(0.7,0.3) W(0.3,2.8) W0(0.3,3.8) W1(0.3,17.2) W2(0.3,18.2) W3(0.3,19.2) W4(0.3,20.2) W5(0.3,21.2) W6(0.3,22.2) W7(0.3,23.2) W8(0.3,24.2) W9(0.3,27.3) W10(0.3,28.1)
  rect 0.2x2.3 on Mid1 paste-2539.97 mask+0.102: G(0.1,1.15)
  rect 0.2x2.3 smd paste-2539.97 mask+0.102: G(0.1,1.15)
  rect 0.2x2.3 on Mid2 paste-2539.97 mask+0.102: G(0.1,1.15)
  rect 0.2x2.3 smd far side paste-2539.97 mask+0.102: G(0.1,1.15)
  rect 0.2x12.4 on Mid1 paste-2539.97 mask+0.102: G(0.1,10.5)
  rect 0.2x12.4 smd paste-2539.97 mask+0.102: G(0.1,10.5)
  rect 0.2x12.4 on Mid2 paste-2539.97 mask+0.102: G(0.1,10.5)
  rect 0.2x12.4 smd far side paste-2539.97 mask+0.102: G(0.1,10.5)
  rect 0.2x2.1 on Mid1 paste-2539.97 mask+0.102: G(0.1,25.75)
  rect 0.2x2.1 smd paste-2539.97 mask+0.102: G(0.1,25.75)
  rect 0.2x2.1 on Mid2 paste-2539.97 mask+0.102: G(0.1,25.75)
  rect 0.2x2.1 smd far side paste-2539.97 mask+0.102: G(0.1,25.75)
  rect 0.2x10.7 on Mid1 paste-2539.97 mask+0.102: G(0.1,33.95)
  rect 0.2x10.7 smd paste-2539.97 mask+0.102: G(0.1,33.95)
  rect 0.2x10.7 on Mid2 paste-2539.97 mask+0.102: G(0.1,33.95)
  rect 0.2x10.7 smd far side paste-2539.97 mask+0.102: G(0.1,33.95)
  rect 1.4x0.2 on Mid1 paste-2539.97 mask+0.102: G(1.9,0.1)
  rect 1.4x0.2 smd paste-2539.97 mask+0.102: G(1.9,0.1)
  rect 1.4x0.2 on Mid2 paste-2539.97 mask+0.102: G(1.9,0.1)
  rect 1.4x0.2 smd far side paste-2539.97 mask+0.102: G(1.9,0.1)
  rect 5x0.2 on Mid1 paste-2539.97 mask+0.102: G(3.3,40)
  rect 5x0.2 smd paste-2539.97 mask+0.102: G(3.3,40)
  rect 5x0.2 on Mid2 paste-2539.97 mask+0.102: G(3.3,40)
  rect 5x0.2 smd far side paste-2539.97 mask+0.102: G(3.3,40)
  rect 9.2x0.2 on Mid1 paste-2539.97 mask+0.102: G(11.4,40)
  rect 9.2x0.2 smd paste-2539.97 mask+0.102: G(11.4,40)
  rect 9.2x0.2 on Mid2 paste-2539.97 mask+0.102: G(11.4,40)
  rect 9.2x0.2 smd far side paste-2539.97 mask+0.102: G(11.4,40)
  rect 4.5x0.2 on Mid1 paste-2539.97 mask+0.102: G(21.65,40)
  rect 4.5x0.2 smd paste-2539.97 mask+0.102: G(21.65,40)
  rect 4.5x0.2 on Mid2 paste-2539.97 mask+0.102: G(21.65,40)
  rect 4.5x0.2 smd far side paste-2539.97 mask+0.102: G(21.65,40)
  rect 0.2x2 on Mid1 paste-2539.97 mask+0.102: G(42.2,1)
  rect 0.2x2 smd paste-2539.97 mask+0.102: G(42.2,1)
  rect 0.2x2 on Mid2 paste-2539.97 mask+0.102: G(42.2,1)
  rect 0.2x2 smd far side paste-2539.97 mask+0.102: G(42.2,1)
  rect 0.2x4.9 on Mid1 paste-2539.97 mask+0.102: G(42.2,6.25)
  rect 0.2x4.9 smd paste-2539.97 mask+0.102: G(42.2,6.25)
  rect 0.2x4.9 on Mid2 paste-2539.97 mask+0.102: G(42.2,6.25)
  rect 0.2x4.9 smd far side paste-2539.97 mask+0.102: G(42.2,6.25)
  rect 0.2x1.6 on Mid1 paste-2539.97 mask+0.102: G(42.2,38.5)
  rect 0.2x1.6 smd paste-2539.97 mask+0.102: G(42.2,38.5)
  rect 0.2x1.6 on Mid2 paste-2539.97 mask+0.102: G(42.2,38.5)
  rect 0.2x1.6 smd far side paste-2539.97 mask+0.102: G(42.2,38.5)
Top Layer keep-out:
  region: 42.2,40 42.2,0.1 0.1,0.1 0.1,40
Mid-Layer 1 keep-out:
  region: 42.2,40 42.2,0.1 0.1,0.1 0.1,40
Mid-Layer 2 keep-out:
  region: 42.2,40 42.2,0.1 0.1,0.1 0.1,40
Bottom Layer keep-out:
  region: 42.2,40 42.2,0.1 0.1,0.1 0.1,40
Top Overlay:
  lines w0.2: 0.1,0.1 42.2,0.1 42.2,40 40.9,40 0.1,40 0.1,0.1
Bottom Overlay:
  lines w0.2: 0.1,0.1 42.2,0.1 42.2,40 40.9,40 0.1,40 0.1,0.1

## MOD_Hellen_MEGA_MCU144_0.2 [mm] "Hellen One : MEGA MCU144 module interface"
pads (164):
  round 0.6 hole 0.3 paste-2539.97 mask+0: E1(42,37.2) E2(42,36.4) E3(42,35.6) E4(42,34.8) E6(42,34) E7(42,33.2) E8(42,32.4) E9(42,31.6) E10(42,30.8) E11(42,30) E12(42,29.2) E13(42,28.4) E14(42,27.6) E15(42,26.8) E16(42,26) E17(42,25.2) E18(42,24.4) E19(42,23.6) E20(42,22.8) E21(42,22) E22(42,21.2) E23(42,20.4) E24(42,19.6) E25(42,18.8) E26(42,18) E27(42,17.2) E28(42,16.4) E29(42,15.6) E30(42,14.8) E31(42,14) E32(42,13.2) E33(42,12.4) E34(42,11.6) E35(42,10.8) E36(42,10) E38(42,3.3) E39(42,2.5) N1(42,39.8) N2(41.2,39.8) N3(40.4,39.8) N4(39.6,39.8) N5(38.8,39.8) N6(38,39.8) N7(37.2,39.8) N8(36.4,39.8) N9(35.6,39.8) N10(34.8,39.8) N11(34,39.8) N12(33.2,39.8) N13(32.4,39.8) N14(31.6,39.8) N15(30.8,39.8) N16(30,39.8) N17(29.2,39.8) N18(28.4,39.8) N19(27.6,39.8) N20(26.8,39.8) N21(26,39.8) N22(25.2,39.8) N23(24.4,39.8) N24(18.9,39.8) N25(18.1,39.8) N26(17.3,39.8) N27(16.5,39.8) N28(15.7,39.8) N29(7.9,39.8) N30(7.1,39.8) N31(6.3,39.8) N32(0.3,39.8) S1(41.4,0.3) S2(40.2,0.3) S3(39,0.3) S4(37.8,0.3) S5(36.6,0.3) S6(35.5,0.3) S7(34.3,0.3) S8(33.1,0.3) S9(31.9,0.3) S10(30.7,0.3) S11(29.5,0.3) S12(28.3,0.3) S13(27.1,0.3) S14(25.9,0.3) S15(24.7,0.3) S16(23.5,0.3) S17(22.3,0.3) S18(21.1,0.3) S19(19.9,0.3) S20(18.7,0.3) S21(17.5,0.3) S22(16.3,0.3) S23(15.1,0.3) S24(13.9,0.3) S25(12.7,0.3) S26(11.5,0.3) S27(10.3,0.3) S28(9.1,0.3) S29(7.9,0.3) S30(6.7,0.3) S31(5.5,0.3) S32(4.3,0.3) S33(3.1,0.3) S35(0.7,0.3) W1(0.3,2.8) W2(0.3,3.8) W3(0.3,10.2) W4(0.3,17.2) W5(0.3,18.2) W6(0.3,19.2) W7(0.3,20.2) W8(0.3,21.2) W9(0.3,22.2) W10(0.3,23.2) W11(0.3,24.2) W12(0.3,27.3) W13(0.3,28.1)
  rect 0.2x2.3 on Mid1 paste+0 mask+0: G(0.1,1.15)
  rect 0.2x2.3 smd paste+0 mask+0: G(0.1,1.15)
  rect 0.2x2.3 on Mid2 paste+0 mask+0: G(0.1,1.15)
  rect 0.2x2.3 smd far side paste+0 mask+0: G(0.1,1.15)
  rect 0.2x5.4 on Mid1 paste+0 mask+0: G(0.1,7)
  rect 0.2x5.4 smd paste+0 mask+0: G(0.1,7)
  rect 0.2x5.4 on Mid2 paste+0 mask+0: G(0.1,7)
  rect 0.2x5.4 smd far side paste+0 mask+0: G(0.1,7)
  rect 0.2x6 on Mid1 paste+0 mask+0: G(0.1,13.7)
  rect 0.2x6 smd paste+0 mask+0: G(0.1,13.7)
  rect 0.2x6 on Mid2 paste+0 mask+0: G(0.1,13.7)
  rect 0.2x6 smd far side paste+0 mask+0: G(0.1,13.7)
  rect 0.2x2.1 on Mid1 paste+0 mask+0: G(0.1,25.75)
  rect 0.2x2.1 smd paste+0 mask+0: G(0.1,25.75)
  rect 0.2x2.1 on Mid2 paste+0 mask+0: G(0.1,25.75)
  rect 0.2x2.1 smd far side paste+0 mask+0: G(0.1,25.75)
  rect 0.2x10.7 on Mid1 paste+0 mask+0: G(0.1,33.95)
  rect 0.2x10.7 smd paste+0 mask+0: G(0.1,33.95)
  rect 0.2x10.7 on Mid2 paste+0 mask+0: G(0.1,33.95)
  rect 0.2x10.7 smd far side paste+0 mask+0: G(0.1,33.95)
  rect 1.4x0.2 on Mid1 paste+0 mask+0: G(1.9,0.1)
  rect 1.4x0.2 smd paste+0 mask+0: G(1.9,0.1)
  rect 1.4x0.2 on Mid2 paste+0 mask+0: G(1.9,0.1)
  rect 1.4x0.2 smd far side paste+0 mask+0: G(1.9,0.1)
  rect 5x0.2 on Mid1 paste+0 mask+0: G(3.3,40)
  rect 5x0.2 smd paste+0 mask+0: G(3.3,40)
  rect 5x0.2 on Mid2 paste+0 mask+0: G(3.3,40)
  rect 5x0.2 smd far side paste+0 mask+0: G(3.3,40)
  rect 6.8x0.2 on Mid1 paste+0 mask+0: G(11.8,40)
  rect 6.8x0.2 smd paste+0 mask+0: G(11.8,40)
  rect 6.8x0.2 on Mid2 paste+0 mask+0: G(11.8,40)
  rect 6.8x0.2 smd far side paste+0 mask+0: G(11.8,40)
  rect 4.5x0.2 on Mid1 paste+0 mask+0: G(21.65,40)
  rect 4.5x0.2 smd paste+0 mask+0: G(21.65,40)
  rect 4.5x0.2 on Mid2 paste+0 mask+0: G(21.65,40)
  rect 4.5x0.2 smd far side paste+0 mask+0: G(21.65,40)
  rect 0.2x2 on Mid1 paste+0 mask+0: G(42.2,1)
  rect 0.2x2 smd paste+0 mask+0: G(42.2,1)
  rect 0.2x2 on Mid2 paste+0 mask+0: G(42.2,1)
  rect 0.2x2 smd far side paste+0 mask+0: G(42.2,1)
  rect 0.2x5.7 on Mid1 paste+0 mask+0: G(42.2,6.65)
  rect 0.2x5.7 smd paste+0 mask+0: G(42.2,6.65)
  rect 0.2x5.7 on Mid2 paste+0 mask+0: G(42.2,6.65)
  rect 0.2x5.7 smd far side paste+0 mask+0: G(42.2,6.65)
  rect 0.2x1.6 on Mid1 paste+0 mask+0: G(42.2,38.5)
  rect 0.2x1.6 smd paste+0 mask+0: G(42.2,38.5)
  rect 0.2x1.6 on Mid2 paste+0 mask+0: G(42.2,38.5)
  rect 0.2x1.6 smd far side paste+0 mask+0: G(42.2,38.5)
Top Layer keep-out:
  region: 42.2,40 42.2,0.1 0.1,0.1 0.1,40
Mid-Layer 1 keep-out:
  region: 42.2,40 42.2,0.1 0.1,0.1 0.1,40
Mid-Layer 2 keep-out:
  region: 42.2,40 42.2,0.1 0.1,0.1 0.1,40
Bottom Layer keep-out:
  region: 42.2,40 42.2,0.1 0.1,0.1 0.1,40
Top Overlay:
  lines w0.2: 0.1,0.1 0.1,40 40.9,40 42.2,40 42.2,0.1 0.1,0.1
Bottom Overlay:
  lines w0.2: 0.1,0.1 0.1,40 40.9,40 42.2,40 42.2,0.1 0.1,0.1

## MOD_Hellen_MEGA_MCU144_0.7 [mm] "Hellen One : MEGA MCU144 module interface"
pads (165):
  round 0.6 hole 0.3 paste-2539.97 mask+0: E1(42,37.2) E2(42,36.4) E3(42,35.6) E4(42,34.8) E6(42,34) E7(42,33.2) E8(42,32.4) E9(42,31.6) E10(42,30.8) E11(42,30) E12(42,29.2) E13(42,28.4) E14(42,27.6) E15(42,26.8) E16(42,26) E17(42,25.2) E18(42,24.4) E19(42,23.6) E20(42,22.8) E21(42,22) E22(42,21.2) E23(42,20.4) E24(42,19.6) E25(42,18.8) E26(42,18) E27(42,17.2) E28(42,16.4) E29(42,15.6) E30(42,14.8) E31(42,14) E32(42,13.2) E33(42,12.4) E34(42,11.6) E35(42,10.8) E36(42,10) E38(42,3.3) E39(42,2.5) N1(42,39.8) N2(41.2,39.8) N3(40.4,39.8) N4(39.6,39.8) N5(38.8,39.8) N6(38,39.8) N7(37.2,39.8) N8(36.4,39.8) N9(35.6,39.8) N10(34.8,39.8) N11(34,39.8) N12(33.2,39.8) N13(32.4,39.8) N14(31.6,39.8) N15(30.8,39.8) N16(30,39.8) N17(29.2,39.8) N18(28.4,39.8) N19(27.6,39.8) N20(26.8,39.8) N21(26,39.8) N22(25.2,39.8) N23(24.4,39.8) N24(18.9,39.8) N25(18.1,39.8) N26(17.3,39.8) N27(16.5,39.8) N28(15.7,39.8) N29(7.9,39.8) N30(7.1,39.8) N31(6.3,39.8) N32(0.3,39.8) S1(41.4,0.3) S2(40.2,0.3) S3(39,0.3) S4(37.8,0.3) S5(36.6,0.3) S6(35.5,0.3) S7(34.3,0.3) S8(33.1,0.3) S9(31.9,0.3) S10(30.7,0.3) S11(29.5,0.3) S12(28.3,0.3) S13(27.1,0.3) S14(25.9,0.3) S15(24.7,0.3) S16(23.5,0.3) S17(22.3,0.3) S18(21.1,0.3) S19(19.9,0.3) S20(18.7,0.3) S21(17.5,0.3) S22(16.3,0.3) S23(15.1,0.3) S24(13.9,0.3) S25(12.7,0.3) S26(11.5,0.3) S27(10.3,0.3) S28(9.1,0.3) S29(7.9,0.3) S30(6.7,0.3) S31(5.5,0.3) S32(4.3,0.3) S33(3.1,0.3) S35(0.7,0.3) W1(0.3,2.8) W2(0.3,3.8) W3(0.3,10.2) W3a(0.3,16.2) W4(0.3,17.2) W5(0.3,18.2) W6(0.3,19.2) W7(0.3,20.2) W8(0.3,21.2) W9(0.3,22.2) W10(0.3,23.2) W11(0.3,24.2) W11a(0.3,25.2) W11b(0.3,26.2) W11c(0.3,27.2) W11d(0.3,28.2) W12(0.3,29.2) W13(0.3,30.2)
  rect 0.2x2.3 on Mid1 paste+0 mask+0: G(0.1,1.15)
  rect 0.2x2.3 smd paste+0 mask+0: G(0.1,1.15)
  rect 0.2x2.3 on Mid2 paste+0 mask+0: G(0.1,1.15)
  rect 0.2x2.3 smd far side paste+0 mask+0: G(0.1,1.15)
  rect 0.2x5.4 on Mid1 paste+0 mask+0: G(0.1,7)
  rect 0.2x5.4 smd paste+0 mask+0: G(0.1,7)
  rect 0.2x5.4 on Mid2 paste+0 mask+0: G(0.1,7)
  rect 0.2x5.4 smd far side paste+0 mask+0: G(0.1,7)
  rect 0.2x5 on Mid1 paste+0 mask+0: G(0.1,13.2)
  rect 0.2x5 smd paste+0 mask+0: G(0.1,13.2)
  rect 0.2x5 on Mid2 paste+0 mask+0: G(0.1,13.2)
  rect 0.2x5 smd far side paste+0 mask+0: G(0.1,13.2)
  rect 0.2x8.6 on Mid1 paste+0 mask+0: G(0.1,35)
  rect 0.2x8.6 smd paste+0 mask+0: G(0.1,35)
  rect 0.2x8.6 on Mid2 paste+0 mask+0: G(0.1,35)
  rect 0.2x8.6 smd far side paste+0 mask+0: G(0.1,35)
  rect 1.4x0.2 on Mid1 paste+0 mask+0: G(1.9,0.1)
  rect 1.4x0.2 smd paste+0 mask+0: G(1.9,0.1)
  rect 1.4x0.2 on Mid2 paste+0 mask+0: G(1.9,0.1)
  rect 1.4x0.2 smd far side paste+0 mask+0: G(1.9,0.1)
  rect 5x0.2 on Mid1 paste+0 mask+0: G(3.3,40)
  rect 5x0.2 smd paste+0 mask+0: G(3.3,40)
  rect 5x0.2 on Mid2 paste+0 mask+0: G(3.3,40)
  rect 5x0.2 smd far side paste+0 mask+0: G(3.3,40)
  rect 6.8x0.2 on Mid1 paste+0 mask+0: G(11.8,40)
  rect 6.8x0.2 smd paste+0 mask+0: G(11.8,40)
  rect 6.8x0.2 on Mid2 paste+0 mask+0: G(11.8,40)
  rect 6.8x0.2 smd far side paste+0 mask+0: G(11.8,40)
  rect 4.5x0.2 on Mid1 paste+0 mask+0: G(21.65,40)
  rect 4.5x0.2 smd paste+0 mask+0: G(21.65,40)
  rect 4.5x0.2 on Mid2 paste+0 mask+0: G(21.65,40)
  rect 4.5x0.2 smd far side paste+0 mask+0: G(21.65,40)
  rect 0.2x2 on Mid1 paste+0 mask+0: G(42.2,1)
  rect 0.2x2 smd paste+0 mask+0: G(42.2,1)
  rect 0.2x2 on Mid2 paste+0 mask+0: G(42.2,1)
  rect 0.2x2 smd far side paste+0 mask+0: G(42.2,1)
  rect 0.2x5.7 on Mid1 paste+0 mask+0: G(42.2,6.65)
  rect 0.2x5.7 smd paste+0 mask+0: G(42.2,6.65)
  rect 0.2x5.7 on Mid2 paste+0 mask+0: G(42.2,6.65)
  rect 0.2x5.7 smd far side paste+0 mask+0: G(42.2,6.65)
  rect 0.2x1.6 on Mid1 paste+0 mask+0: G(42.2,38.5)
  rect 0.2x1.6 smd paste+0 mask+0: G(42.2,38.5)
  rect 0.2x1.6 on Mid2 paste+0 mask+0: G(42.2,38.5)
  rect 0.2x1.6 smd far side paste+0 mask+0: G(42.2,38.5)
Top Layer keep-out:
  region: 42.2,40 42.2,0.1 0.1,0.1 0.1,40
Mid-Layer 1 keep-out:
  region: 42.2,40 42.2,0.1 0.1,0.1 0.1,40
Mid-Layer 2 keep-out:
  region: 42.2,40 42.2,0.1 0.1,0.1 0.1,40
Bottom Layer keep-out:
  region: 42.2,40 42.2,0.1 0.1,0.1 0.1,40
Top Overlay:
  lines w0.2: 0.1,0.1 42.2,0.1 42.2,40 40.9,40 0.1,40 0.1,0.1
Bottom Overlay:
  lines w0.2: 0.1,0.1 42.2,0.1 42.2,40 40.9,40 0.1,40 0.1,0.1

## MOD_Hellen_MEGA_MCU176_0.1 [mm] "Hellen One : MEGA MCU176 module interface"
pads (190):
  round 0.6 hole 0.3 mask+0.102: E0a(44.8,43.925) E0b(44.8,43.125) E0c(44.8,42.325) E0d(44.8,41.525) E36a(44.8,12.725) E36b(44.8,11.925) E36c(44.8,11.125) E36d(44.8,10.325) E36e(44.8,9.525) E36f(44.8,8.725) E36g(44.8,7.925) N0a(43.925,46.325) N0b(43.125,46.325) N0c(42.325,46.325) N28a(14.425,46.325) N28b(13.625,46.325) N28c(12.825,46.325) N28d(12.025,46.325) N28e(11.225,46.325) N28f(10.425,46.325) N28g(9.625,46.325) N28h(8.825,46.325) W3a(0.3,19.825) W3b(0.3,20.825) W3c(0.3,21.825) W3d(0.3,22.825)
  round 0.6 hole 0.3 paste-2539.97 mask+0: E1(44.8,40.725) E2(44.8,39.925) E3(44.8,39.125) E4(44.8,38.325) E6(44.8,37.525) E7(44.8,36.725) E8(44.8,35.925) E9(44.8,35.125) E10(44.8,34.325) E11(44.8,33.525) E12(44.8,32.725) E13(44.8,31.925) E14(44.8,31.125) E15(44.8,30.325) E16(44.8,29.525) E17(44.8,28.725) E18(44.8,27.925) E19(44.8,27.125) E20(44.8,26.325) E21(44.8,25.525) E22(44.8,24.725) E23(44.8,23.925) E24(44.8,23.125) E25(44.8,22.325) E26(44.8,21.525) E27(44.8,20.725) E28(44.8,19.925) E29(44.8,19.125) E30(44.8,18.325) E31(44.8,17.525) E32(44.8,15.925) E33(44.8,15.125) E34(44.8,14.325) E35(44.8,16.725) E36(44.8,13.525) E38(44.8,4.9) E39(44.8,4.1) E40(44.8,3.3) N1(41.525,46.325) N2(40.725,46.325) N3(39.925,46.325) N4(39.125,46.325) N5(38.325,46.325) N6(37.525,46.325) N7(36.725,46.325) N8(35.925,46.325) N9(35.125,46.325) N10(34.325,46.325) N11(33.525,46.325) N12(32.725,46.325) N13(31.925,46.325) N14(31.125,46.325) N15(30.325,46.325) N16(29.525,46.325) N17(28.725,46.325) N18(27.925,46.325) N19(27.125,46.325) N20(26.325,46.325) N21(25.525,46.325) N22(24.725,46.325) N23(23.925,46.325) N24(18.425,46.325) N25(17.625,46.325) N26(16.825,46.325) N27(16.025,46.325) N28(15.225,46.325) N29(7.9,46.325) N30(7.1,46.325) N31(6.3,46.325) N32(0.3,46.325) S2(44.8,0.3) S3(43.65,0.3) S4(42.55,0.3) S5(41.45,0.3) S5a(40.3,0.3) S5b(39.1,0.3) S5c(37.9,0.3) S5d(36.7,0.3) S6(35.5,0.3) S7(34.3,0.3) S8(33.1,0.3) S9(31.9,0.3) S10(30.7,0.3) S11(29.5,0.3) S12(28.3,0.3) S13(27.1,0.3) S14(25.9,0.3) S15(24.7,0.3) S16(23.5,0.3) S17(22.3,0.3) S18(21.1,0.3) S19(19.9,0.3) S20(18.7,0.3) S21(17.5,0.3) S22(16.3,0.3) S23(15.1,0.3) S24(13.9,0.3) S25(12.7,0.3) S26(11.5,0.3) S27(10.3,0.3) S28(9.1,0.3) S29(7.9,0.3) S30(6.7,0.3) S31(5.5,0.3) S32(4.3,0.3) S33(3.1,0.3) S35(0.7,0.3) W1(0.3,2.8) W2(0.3,3.8) W3(0.3,18.825) W4(0.3,23.825) W5(0.3,24.825) W6(0.3,25.825) W7(0.3,26.825) W8(0.3,27.825) W9(0.3,28.825) W10(0.3,29.825) W11(0.3,30.825) W12(0.3,33.925) W13(0.3,34.725)
  rect 0.2x2.3 on Mid1 paste+0 mask+0: G(0.1,1.15)
  rect 0.2x2.3 smd paste+0 mask+0: G(0.1,1.15)
  rect 0.2x2.3 on Mid2 paste+0 mask+0: G(0.1,1.15)
  rect 0.2x2.3 smd far side paste+0 mask+0: G(0.1,1.15)
  rect 0.2x14.025 on Mid1 paste+0 mask+0: G(0.1,11.313)
  rect 0.2x14.025 smd paste+0 mask+0: G(0.1,11.313)
  rect 0.2x14.025 on Mid2 paste+0 mask+0: G(0.1,11.313)
  rect 0.2x14.025 smd far side paste+0 mask+0: G(0.1,11.313)
  rect 0.2x2.1 on Mid1 paste+0 mask+0: G(0.1,32.375)
  rect 0.2x2.1 smd paste+0 mask+0: G(0.1,32.375)
  rect 0.2x2.1 on Mid2 paste+0 mask+0: G(0.1,32.375)
  rect 0.2x2.1 smd far side paste+0 mask+0: G(0.1,32.375)
  rect 0.2x10.6 on Mid1 paste+0 mask+0: G(0.1,40.525)
  rect 0.2x10.6 smd paste+0 mask+0: G(0.1,40.525)
  rect 0.2x10.6 on Mid2 paste+0 mask+0: G(0.1,40.525)
  rect 0.2x10.6 smd far side paste+0 mask+0: G(0.1,40.525)
  rect 1.4x0.2 on Mid1 paste+0 mask+0: G(1.9,0.1)
  rect 1.4x0.2 smd paste+0 mask+0: G(1.9,0.1)
  rect 1.4x0.2 on Mid2 paste+0 mask+0: G(1.9,0.1)
  rect 1.4x0.2 smd far side paste+0 mask+0: G(1.9,0.1)
  rect 5x0.2 on Mid1 paste+0 mask+0: G(3.3,46.525)
  rect 5x0.2 smd paste+0 mask+0: G(3.3,46.525)
  rect 5x0.2 on Mid2 paste+0 mask+0: G(3.3,46.525)
  rect 5x0.2 smd far side paste+0 mask+0: G(3.3,46.525)
  rect 4.5x0.2 on Mid1 paste+0 mask+0: G(21.175,46.525)
  rect 4.5x0.2 smd paste+0 mask+0: G(21.175,46.525)
  rect 4.5x0.2 on Mid2 paste+0 mask+0: G(21.175,46.525)
  rect 4.5x0.2 smd far side paste+0 mask+0: G(21.175,46.525)
  rect 0.675x0.2 on Mid1 paste+0 mask+0: G(44.762,46.525)
  rect 0.675x0.2 smd paste+0 mask+0: G(44.762,46.525)
  rect 0.675x0.2 on Mid2 paste+0 mask+0: G(44.762,46.525)
  rect 0.675x0.2 smd far side paste+0 mask+0: G(44.762,46.525)
  rect 0.2x2.025 on Mid1 paste+0 mask+0: G(45,6.413)
  rect 0.2x2.025 smd paste+0 mask+0: G(45,6.413)
  rect 0.2x2.025 on Mid2 paste+0 mask+0: G(45,6.413)
  rect 0.2x2.025 smd far side paste+0 mask+0: G(45,6.413)
  rect 0.2x2.2 on Mid1 paste+0 mask+0: G(45,45.525)
  rect 0.2x2.2 smd paste+0 mask+0: G(45,45.525)
  rect 0.2x2.2 on Mid2 paste+0 mask+0: G(45,45.525)
  rect 0.2x2.2 smd far side paste+0 mask+0: G(45,45.525)
  rect 0.2x2 on Mid1 paste+0 mask+0: G(45,1.8)
  rect 0.2x2 smd paste+0 mask+0: G(45,1.8)
  rect 0.2x2 on Mid2 paste+0 mask+0: G(45,1.8)
  rect 0.2x2 smd far side paste+0 mask+0: G(45,1.8)
Top Layer keep-out:
  region: 45,46.525 45,0.1 0.1,0.1 0.1,46.525
Mid-Layer 1 keep-out:
  region: 45,46.525 45,0.1 0.1,0.1 0.1,46.525
Mid-Layer 2 keep-out:
  region: 45,46.525 45,0.1 0.1,0.1 0.1,46.525
Bottom Layer keep-out:
  region: 45,46.525 45,0.1 0.1,0.1 0.1,46.525
Top Overlay:
  lines w0.2: 0.1,0.1 45,0.1 45,46.525 0.1,46.525 0.1,0.1
Bottom Overlay:
  lines w0.2: 0.1,0.1 45,0.1 45,46.525 0.1,46.525 0.1,0.1

## MOD_Hellen_MEGA_MCU_PREMIUM_0.1 [mm] "Hellen One : MEGA MCU PREMIUM module interface"
pads (133):
  round 0.6 hole 0.3 paste-2539.97 mask+0: AIN1(32.7,0.3) AIN2(33.9,0.3) AIN3(30.3,0.3) AIN4(31.5,0.3) AIN5(27.9,0.3) AIN6(29.1,0.3) AIN7(13.5,0.3) AIN8(18.3,0.3) AIN9(17.1,0.3) AIN10(15.9,0.3) AIN11(12.3,0.3) AIN12(14.7,0.3) BOOT0(51.9,43.5) CAN1H(51.9,29.1) CAN1L(51.9,27.9) CAN2H(0.3,38.7) CAN2L(0.3,39.9) CAN3H(51.9,26.7) CAN3L(51.9,25.5) CS2(51.9,18.3) CS3(43.5,44.7) DIN1(3.9,0.3) DIN2(19.5,0.3) DIN3(23.1,0.3) DIN4(2.7,0.3) DIN5(26.7,0.3) DIN6(6.3,0.3) DIN7(5.1,0.3) DIN8(8.7,0.3) DIN9(11.1,0.3) DIN10(20.7,0.3) DIN11(21.9,0.3) DIN12(25.5,0.3) DIN13(24.3,0.3) DIN14(9.9,0.3) DIN15(7.5,0.3) DIN16(44.7,0.3) DIN17(45.9,0.3) DIN18(47.1,0.3) DIN19(48.3,0.3) ETH_LED(0.3,20.7) ETH_RXN(0.3,19.5) ETH_RXP(0.3,18.3) ETH_TXN(0.3,25.5) ETH_TXP(0.3,24.3) GNDA_1(0.3,0.3) GNDA_2(51.9,0.3) IGN1(0.3,29.1) IGN2(0.3,30.3) IGN3(0.3,31.5) IGN4(0.3,32.7) IGN5(0.3,33.9) IGN6(0.3,35.1) IGN7(0.3,36.3) IGN8(0.3,37.5) IN_VIGN(0.3,26.7) INJ1(51.9,15.9) INJ2(51.9,17.1) INJ3(51.9,14.7) INJ4(51.9,13.5) INJ5(51.9,7.5) INJ6(51.9,3.9) INJ7(51.9,1.5) INJ8(51.9,2.7) IO1(37.5,44.7) IO2(48.3,44.7) IO3(36.3,44.7) IO4(49.5,44.7) IO5(38.7,44.7) IO6(0.3,13.5) IO7(51.9,44.7) IO8(50.7,44.7) IO9(0.3,14.7) IO10(0.3,17.1) IO11(0.3,15.9) MISO2(51.9,20.7) MISO3(41.1,44.7) MOSI2(51.9,21.9) MOSI3(39.9,44.7) nRST(51.9,32.7) PWM1(2.7,44.7) PWM2(51.9,38.7) PWM3(51.9,5.1) PWM4(51.9,37.5) PWM5(51.9,42.3) PWM6(51.9,33.9) PWM7(51.9,36.3) PWM8(51.9,41.1) PWM9(51.9,12.3) PWM10(51.9,11.1) PWM11(51.9,9.9) PWM12(51.9,8.7) PWM13(51.9,6.3) PWM14(0.3,43.5) PWM15(0.3,44.7) PWM16(1.5,44.7) PWR_EN(0.3,41.1) RX3(51.9,24.3) RX8(7.5,44.7) SCK2(51.9,19.5) SCK3(42.3,44.7) SCL(0.3,23.1) SDA(0.3,21.9) SWC(51.9,30.3) SWD(51.9,31.5) TX3(51.9,23.1) TX8(6.3,44.7) USBM(45.9,44.7) USBP(44.7,44.7) V5A_1(0.3,1.5) V5A_2(50.7,0.3) V5A_3(51.9,35.1) V33_1(3.9,44.7) V33_2(51.9,39.9) V33_REF(49.5,0.3) V33_SW(5.1,44.7) VBAT(0.3,27.9) VBUS(47.1,44.7) VCC(0.3,42.3) VREF1(1.5,0.3) VREF2(43.5,0.3)
  rect 0.2x11 on Mid1 paste+0 mask+0: G(0.1,7.5)
  rect 0.2x11 smd paste+0 mask+0: G(0.1,7.5)
  rect 0.2x11 on Mid2 paste+0 mask+0: G(0.1,7.5)
  rect 0.2x11 smd far side paste+0 mask+0: G(0.1,7.5)
  rect 27.8x0.2 on Mid1 paste+0 mask+0: G(21.9,44.9)
  rect 27.8x0.2 smd paste+0 mask+0: G(21.9,44.9)
  rect 27.8x0.2 on Mid2 paste+0 mask+0: G(21.9,44.9)
  rect 27.8x0.2 smd far side paste+0 mask+0: G(21.9,44.9)
  rect 8.6x0.2 on Mid1 paste+0 mask+0: G(38.7,0.1)
  rect 8.6x0.2 smd paste+0 mask+0: G(38.7,0.1)
  rect 8.6x0.2 on Mid2 paste+0 mask+0: G(38.7,0.1)
  rect 8.6x0.2 smd far side paste+0 mask+0: G(38.7,0.1)
Top Layer keep-out:
  region: 52.1,44.9 52.1,0.1 0.1,0.1 0.1,44.9
Mid-Layer 1 keep-out:
  region: 52.1,44.9 52.1,0.1 0.1,0.1 0.1,44.9
Mid-Layer 2 keep-out:
  region: 52.1,44.9 52.1,0.1 0.1,0.1 0.1,44.9
Bottom Layer keep-out:
  region: 52.1,44.9 52.1,0.1 0.1,0.1 0.1,44.9
Top Overlay:
  lines w0.2: 52.1,0.1 52.1,44.9 0.1,44.9 0.1,0.1 52.1,0.1 ; 52.1,0.1 52.1,0.1
Bottom Overlay:
  lines w0.2: 0.1,0.1 0.1,44.9 52.1,44.9 52.1,0.1 0.1,0.1